# Altium schematic symbol library Schlib1.SchLib: 28 symbols
Pins are listed as number, name and electrical type; pins without a type are passive.

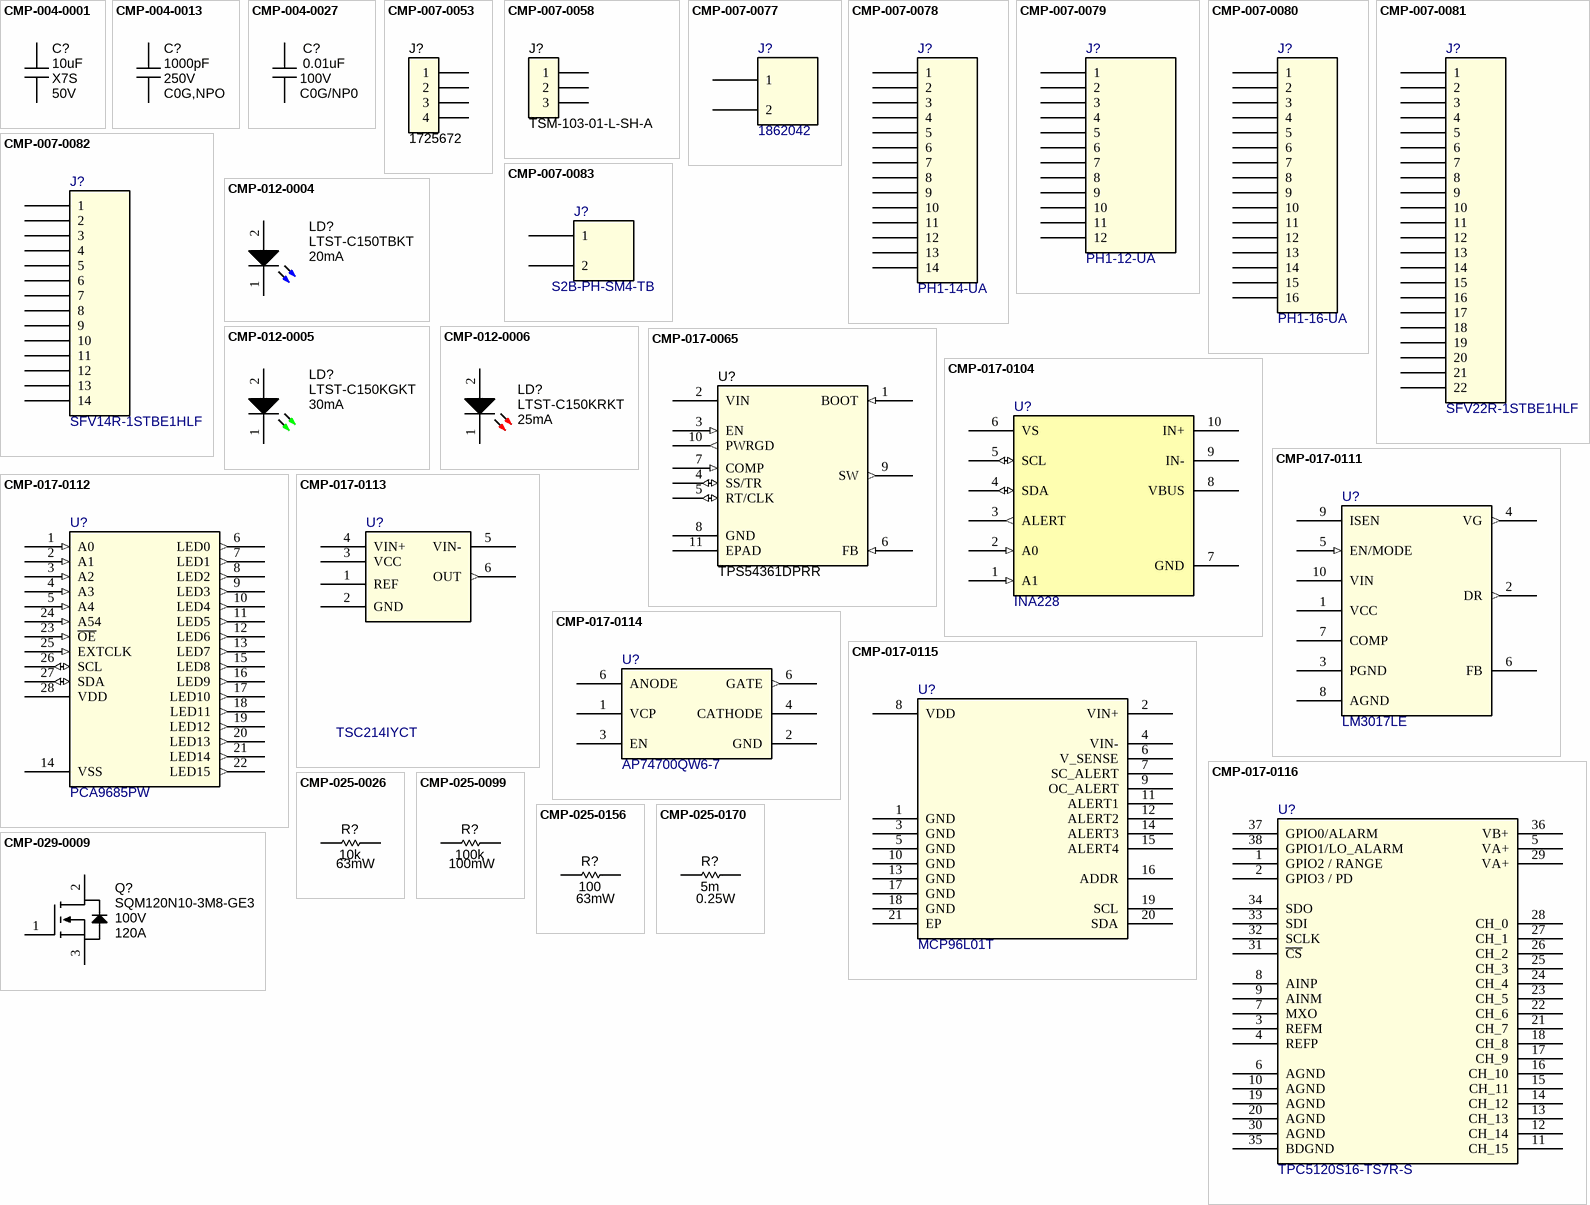
[diagram p0: symbols CMP-004-0001 to CMP-029-0009]

## CMP-004-0001
designator C?, comment 10uF  Voltage Rating: 50V  Temp Coeff: X7S
CAP, CER, 10µF, 50V, 10%, X7S, 1210; MFR: TDK Corporation; MFR#: CGA6P3X7S1H106K250AE; Temp Range: -55 / +125 C; Quality: AEC-Q200; Capacitor Type: Ceramic; Design Item ID: CN/10uF/50V/X7S/10%/1210; Case Code (Imperial): 1210; ComponentLink1URL: https://product.tdk.com/info/en/catalog/datasheets/mlcc_automotive_soft_en.pdf?ref_disty=digikey; Case Code (Metric): 3225; ComponentLink1Description: Datasheet; Tolerance: 10%; Value: 10uF; Supplier 1: Avnet; Supplier Part Number 1: CGA6P3X7S1H106K250AE
footprint CAPC3225X28N (Chip Capacitor, 2-Leads, Body 3.20x2.50mm, IPC Medium Density)
pins: 1, 2

## CMP-004-0013
designator C?, comment 1000pF  Voltage Rating: 250V  Temp Coeff: C0G,NPO
CAP CER 1000PF 250V X7R 0603; MFR2#: C1608C0G2E102J080AA; MFR: KEMET; MFR#: C0603C102JAGAC7867; Tolerance: 5%; Capacitor Type: Ceramic; Temp Range: -55 / +125 C; Case Code (Imperial): 0603; Value: 1000pF; ComponentLink1Description: Datasheet; ComponentLink1URL: https://api.kemet.com/component-edge/download/datasheet/C0603C102K1RAC7411.pdf; RoHS Compliant: Yes; Design Item ID: CN/1000PF/250V/C0G,NPO/5%/0603; MFR2: TDK Corporation; REACH SVHC: Yes; Case Code (Metric): 1608
footprint CAPC1608X09N (Chip Capacitor, 2-Leads, Body 1.60x0.80mm, IPC Medium Density)
pins: 1, 2

## CMP-004-0027
designator C?, comment 0.01uF  Voltage Rating: 100V  Temp Coeff: C0G/NP0
CAP CER 1000PF 100V C0G/NP0 0603; MFR: Murata Electronics; MFR#: GCM1885C2A102JA16D; MFR2#: C0603C103K2RECAUTO; Tolerance: 10%; Temp Range: -55 / +125 C; Capacitor Type: Ceramic; RoHS Compliant: Yes; Case Code (Metric): 1608; REACH SVHC: Yes; MFR2: TDK Corporation; Value: 0.01uF; Case Code (Imperial): 0603; Design Item ID: CN/0.01uF/100V/C0G,NP0/10%/0603
footprint CAPC1608X09N (Chip Capacitor, 2-Leads, Body 1.60x0.80mm, IPC Medium Density)
pins: 1, 2

## CMP-007-0053
designator J?, comment 1725672
TERM BLK 4P SIDE ENT 2.54MM PCB; MFR: Phoenix Contact; Voltage Rating: 250V AC(RMS)/DC; Current Rating: 6A; System: Connector; Temp Range: -40 / +115 C; Gender: Male; Value: 1725672; Orientation: Right Angle; Terminal Pitch: 2.54mm; Design Item ID: CON/4P/2.54mm/6A/1725672/PHOENIX_CONTACT; Flammability Rating: UL 94V0; MFR#: 1725672; Contact Finish: Tin; ComponentLink1Description: Datasheet; ComponentLink1URL: https://www.phoenixcontact.com/en-us/products/printed-circuit-board-terminal-mpt-05-4-254-1725672
footprint CONN_PHOENIX_1725672
pins: 1, 2, 3, 4

## CMP-007-0058
designator J?, comment TSM-103-01-L-SH-A
CONN HEADER SMD R/A 3POS 2.54MM; MFR: Samtec; Durability: 100 mating cycles; Current Rating: 2A; System: Connector; Temp Range: -55 / +125 C; Gender: Male; Value: TSM-103-01-L-SH-A; Orientation: Right Angle; Terminal Pitch: 2.54mm; RoHS Compliant: Yes; Design Item ID: CON/3P/2.54mm/2A/TSM-103-01-L-SH-A/SAMTEC; Flammability Rating: UL 94V-0; MFR#: TSM-103-01-L-SH-A; Contact Finish: Gold; ComponentLink1Description: Product Specifiacation; ComponentLink1URL: https://suddendocs.samtec.com/catalog_english/tsm.pdf; ComponentLink2Description: Drawing; ComponentLink2URL: https://suddendocs.samtec.com/prints/tsm-1xx-xx-xxx-sh-xx-xxx-x-xx-mkt.pdf
footprint CONN_SAMTEC_TSM-103-01-F-SV (CONN SAMTEC TSM-103-01-F-SV)
pins: 1, 2, 3

## CMP-007-0077
designator J?, comment 1862042
TERM BLOCK 2POS 45DEG 3.5MM PCB; MFR: Phoenix; Value: 1862042; MFR#: 1862042; ComponentLink1URL: https://www.phoenixcontact.com/us/products/1862042/pdf; ComponentLink1Description: Datasheet; Contact Finish: Tin; Type: Connector; Design Item ID: CON/2P/3.5MM/1862042/PHOENIX
footprint CONN_PHOENIX_1862042
pins: 1, 2

## CMP-007-0078
designator J?, comment PH1-14-UA
CONN HEADER VERT 14POS 2.54MM; MFR: Adam Tech; Value: PH1-14-UA; MFR#: PH1-14-UA; ComponentLink1URL: https://app.adam-tech.com/products/download/data_sheet/201605/ph1-xx-ua-data-sheet.pdf; ComponentLink1Description: Datasheet; Contact Finish: Gold; Type: Connector; Design Item ID: CON/14P/2.54MM/2A/PH1-14-UA/ADAM TECH
footprint CONN_ADAM_TECH_PH1-14-UA
pins: 1 (power), 2 (power), 3 (power), 4 (power), 5 (power), 6 (power), 7 (power), 8 (power), 9 (power), 10 (power), 11 (power), 12 (power), 13 (power), 14 (power)

## CMP-007-0079
designator J?, comment PH1-12-UA
CONN HEADER VERT 12POS 2.54MM; MFR: Adam Tech; MFR#: v; Value: PH1-12-UA; ComponentLink1URL: https://app.adam-tech.com/products/download/data_sheet/201605/ph1-xx-ua-data-sheet.pdf; ComponentLink1Description: Datasheet; Contact Finish: Tin; Type: Connector; Design Item ID: CON/12P/2.54MM/2A/PH1-12-UA/Adam Tech
footprint CONN_ADAM_TECH_PH1-12-UA
pins: 1 (power), 2 (power), 3 (power), 4 (power), 5 (power), 6 (power), 7 (power), 8 (power), 9 (power), 10 (power), 11 (power), 12 (power)

## CMP-007-0080
designator J?, comment PH1-16-UA
CONN HEADER VERT 16POS 2.54MM; MFR: Adam Tech; Value: PH1-16-UA; MFR#: PH1-16-UA; ComponentLink1URL: https://app.adam-tech.com/products/download/data_sheet/201605/ph1-xx-ua-data-sheet.pdf; ComponentLink1Description: Datasheet; Contact Finish: Gold; Type: Connector; Design Item ID: CON/16P/2.54MM/2A/PH1-16-UA/ADAM TECH
footprint CONN_ADAM_TECH_PH1-16-UA
pins: 1 (power), 2 (power), 3 (power), 4 (power), 5 (power), 6 (power), 7 (power), 8 (power), 9 (power), 10 (power), 11 (power), 12 (power), 13 (power), 14 (power), 15 (power), 16 (power)

## CMP-007-0081
designator J?, comment SFV22R-1STBE1HLF
CONN FFC BOTTOM 22POS 0.5MM R/A; MFR: Amphenol ICC (FCI); Value: SFV22R-1STBE1HLF; MFR#: SFV22R-1STBE1HLF; ComponentLink1URL: https://cdn.amphenol-cs.com/media/wysiwyg/files/documentation/datasheet/flex/flexconnectors_050mm_sfvr.pdf; ComponentLink1Description: Datasheet; Contact Finish: Tin; Type: Connector; Design Item ID: CON/22P/0.5MM/0.5A/SFV22R-1STBE1HLF/AMPHENOL
footprint CONN_AMPHENOL_SFV22R-1STBE1HLF
pins: 1 (power), 2 (power), 3 (power), 4 (power), 5 (power), 6 (power), 7 (power), 8 (power), 9 (power), 10 (power), 11 (power), 12 (power), 13 (power), 14 (power), 15 (power), 16 (power), 17 (power), 18 (power), 19 (power), 20 (power), 21 (power), 22 (power)

## CMP-007-0082
designator J?, comment SFV14R-1STBE1HLF
CONN FFC BOTTOM 14POS 0.5MM R/A; MFR: Amphenol ICC (FCI); Value: SFV14R-1STBE1HLF; MFR#: SFV14R-1STBE1HLF; ComponentLink1URL: https://cdn.amphenol-cs.com/media/wysiwyg/files/documentation/datasheet/flex/flexconnectors_050mm_sfvr.pdf; ComponentLink1Description: Datasheet; Contact Finish: Tin; Type: Connector; Design Item ID: CON/14P/0.5MM/0.5A/SFV14R-1STBE1HLF/AMPHENOL
footprint CONN_AMPHENOL_SFV14R-1STBE5HLF
pins: 1 (power), 2 (power), 3 (power), 4 (power), 5 (power), 6 (power), 7 (power), 8 (power), 9 (power), 10 (power), 11 (power), 12 (power), 13 (power), 14 (power)

## CMP-007-0083
designator J?, comment S2B-PH-SM4-TB
CONN HEADER SMD R/A 2POS 2MM; MFR: JST; Value: S2B-PH-SM4-TB; MFR#: S2B-PH-SM4-TB; ComponentLink1URL: https://cdn.amphenol-cs.com/media/wysiwyg/files/documentation/datasheet/flex/flexconnectors_050mm_sfvr.pdf; ComponentLink1Description: Datasheet; Contact Finish: Tin; Type: Connector; Design Item ID: CON/2P/2MM/2A/S2B-PH-SM4-TB/JST
footprint CONN_JST_S2B-PH-SM4-TB
pins: 1 (power), 2 (power)

## CMP-012-0004
designator LD?, comment LTST-C150TBKT  Current Rating: 20mA
LED BLUE CLEAR 1206 SMD; MFR: Lite-On Inc; MFR2#: HQ15-2102UBC; Temp Range: -20 / +80 C; Viewing Angle: 130 degree; Wavelength: 470nm; Voltage: 3.2V; Wattage: 76mW; Current, Reverse Leakage: 10uA; Voltage, Forward: 2.8 - 3.8V; ComponentLink1URL: https://optoelectronics.liteon.com/upload/download/DS22-2000-026/LTST-C150TBKT(0630).pdf; Colour: Blue; Value: LTST-C150TBKT; Design Item ID: LED/BLUE/20MA/LTST-C150TBKT/1206; ComponentLink1Description: Datasheet; MFR2: Harvatek; MFR#: LTST-C150TBKT
footprint LED_LITE-ON_LTST-C150TBKT (Lite-On Blue 1206 Chip LED)
pins: 1 K, 2 A

## CMP-012-0005
designator LD?, comment LTST-C150KGKT  Current Rating: 30mA
LED GREEN CLEAR 1206 SMD; MFR: Lite-On Inc; Current, Reverse Leakage: 10uA; Voltage: 2V; Wavelength: 571nm; Viewing Angle: 130 degree; Wattage: 75mW; Temp Range: -55 / +85 C; ComponentLink1URL: https://optoelectronics.liteon.com/upload/download/DS22-2000-072/LTST-C150KGKT.pdf; Design Item ID: LED/GREEN/30MA/LTST-C150KGKT/1206; ComponentLink1Description: Datasheet; Part Status: Production; Voltage, Forward: 2V; Colour: Green; MFR#: LTST-C150KGKT; Value: LTST-C150KGKT
footprint LED_LITE-ON_LTST-C150KGKT (Lite-On Blue 1206 Chip LED)
pins: 1 K, 2 A

## CMP-012-0006
designator LD?, comment LTST-C150KRKT  Current: 25mA
LED RED CLEAR 1206 SMD; MFR: Lite-On Inc; Viewing Angle: 130 degree; Voltage: 2V; Wavelength: 631nm; Wattage: 62.5mW; Current, Reverse Leakage: 10uA; Temp Range: -30 / +85 C; Voltage, Forward: 2 - 2.4V; MFR#: LTST-C150KRKT; Part Status: Production; Value: LTST-C150KRKT; ComponentLink1Description: Datasheet; Colour: Red; Design Item ID: LED/RED/25MA/LTST-C150KRKT/1206; ComponentLink1URL: https://optoelectronics.liteon.com/upload/download/DS-22-99-0149/LTST-C150KRKT.pdf
footprint LED_LITE-ON_LTST-C150KRKT (Lite-On Blue 1206 Chip LED)
pins: 1 K, 2 A

## CMP-017-0065
designator U?, comment TPS54361DPRR
IC REG BCK SPLIT RAIL ADJ 10WSON; MFR: Texas Instruments; Temp Range: -40 / +150 C; Current: 5.5Ap; Voltage Range: 4.5 - 60V DC; ComponentLink1Description: Datasheet; REACH SVHC: Unaffected; Case/Package: WSON10; MFR#: TPS54361DPRR; Type: DC/DC; Value: TPS54361DPRR; Part Status: Production; ComponentLink1URL: https://www.ti.com/lit/ds/symlink/tps54361.pdf?ts=1687558272251; RoHS Compliant: Yes; Design Item ID: IC/VREG/DCDC/TPS54361/WSON10
footprint QFN80P400X400X80-11N (QFN, 10-Leads, Body 4.0x4.00mm, Pitch 0.80mm, Thermal Pad 3.00x2.60mm, IPC Medium Density)
pins: 1 BOOT (in), 2 VIN (power), 3 EN (in), 4 SS/TR (io), 5 RT/CLK (io), 6 FB (in), 7 COMP (in), 8 GND (power), 9 SW (out), 10 PWRGD (out), 11 EPAD (power)

## CMP-017-0104
designator U?, comment INA228
IC POWER MONITOR DIGITAL 10VSSOP; MFR: Texas Instruments; Value: INA228AIDGSR; Populate: Yes; REACFH SVCH: Unaffected; Temp Range: -40 / +85 C; Voltage Range: 3.6V - 24V DC; Rth(j-a): 44.2 C / W; Rth(j-c) top: 20.9 C / W; Temp Junction: -40 / +150 C; MFR#: INA228AIDGSR; Case Package: VSSOP-10; Design Item ID: IC/PWRM/DIG/INA228; Part Status: Production; RoHS Comliant: Yes; Type: POWER MONITOR; ComponentLink1Description: Datasheet; ComponentLink1URL: https://www.ti.com/general/docs/suppproductinfo.tsp?distId=10&gotoUrl=http%3A%2F%2Fwww.ti.com%2Flit%2Fgpn%2Fina228
footprint TSSOP50P490X110-10N (TSSOP, 10-Leads, Body 3.00x3.00mm, Pitch 0.50mm, IPC Medium Density)
pins: 1 A1 (in), 2 A0 (in), 3 ALERT (out), 4 SDA (io), 5 SCL (io), 6 VS (power), 7 GND, 8 VBUS, 9 IN-, 10 IN+

## CMP-017-0111
designator U?, comment LM3017LE
IC REG CTRLR BOOST 10WQFN; MFR: Texas Instruments; MFR2#: LM3017LEX/NOPB; Value: LM3017LE/NOPB; Populate: Yes; REACFH SVCH: Unaffected; Temp Range, Ambient: -40 / +150 C; Voltage Range: 5.4V - 18V DC; Rth(j-a): 79.2 C/W; Rth(j-c) top: 29.8 C/W; Temp Range, Junction: -40 / +125C; Frequency, Switching: 600kHz; MFR#: LM3017LE/NOPB; MFR2: Texas Instruments; Case Package: QFN50P240X270X80-10N; Design Item ID: IC/VREG/LM3017LE/QFN10; Part Status: Production; RoHS Comliant: Yes; Type: DC/DC BOOST; ComponentLink1Description: Datasheet; ComponentLink1URL: https://www.ti.com/lit/ds/symlink/lm3017.pdf?ts=1770403818508
footprint QFN50P240X270X80-10N (QFN, 10-Leads, Body 2.40x2.70mm, Pitch 0.50mm, IPC Medium Density)
pins: 1 VCC (power), 2 DR (out), 3 PGND (power), 4 VG (out), 5 EN/MODE (in), 6 FB, 7 COMP, 8 AGND (power), 9 ISEN, 10 VIN (power)

## CMP-017-0112
designator U?, comment PCA9685PW
IC LED DRVR LIN PWM 25MA 28TSSOP; MFR: NXP; Value: PCA9685PW,118; Populate: Yes; REACFH SVCH: Unaffected; Temp Range, Ambient: -40 / +85 C; Voltage Range: 2.3V - 5.5V DC; Temp Range, Junction: -40 / +125C; MFR#: PCA9685PW,118; Case Package: TSSOP28; Design Item ID: IC/LDRV/PCA9685PW/TSSOP28; Part Status: Production; RoHS Comliant: Yes; Type: PWM CONTROLLER; ComponentLink1Description: Datasheet; ComponentLink1URL: https://www.nxp.com/docs/en/data-sheet/PCA9685.pdf
footprint SOP65P640X110-28N
pins: 1 A0 (in), 2 A1 (in), 3 A2 (in), 4 A3 (in), 5 A4 (in), 6 LED0 (out), 7 LED1 (out), 8 LED2 (out), 9 LED3 (out), 10 LED4 (out), 11 LED5 (out), 12 LED6 (out), 13 LED7 (out), 14 VSS (power), 15 LED8 (out), 16 LED9 (out), 17 LED10 (out), 18 LED11 (out), 19 LED12 (out), 20 LED13 (out), 21 LED14 (out), 22 LED15 (out), 23 ~{OE} (in), 24 A54 (in), 25 EXTCLK (in), 26 SCL (io), 27 SDA (io), 28 VDD (power)

## CMP-017-0113
designator U?, comment TSC214IYCT
IC CURR SENSE 1 CIRCUIT SC70-6; MFR: NXP; Value: PCA9685PW,118; Populate: Yes; REACFH SVCH: Unaffected; Temp Range, Ambient: -40 / +85 C; Voltage Range: 2.3V - 5.5V DC; Temp Range, Junction: -40 / +125C; MFR#: PCA9685PW,118; Case Package: TSSOP28; Design Item ID: IC/LDRV/PCA9685PW/TSSOP28; Part Status: Production; RoHS Comliant: Yes; Type: PWM CONTROLLER; ComponentLink1Description: Datasheet; ComponentLink1URL: https://www.nxp.com/docs/en/data-sheet/PCA9685.pdf
footprint SOT65P210X110-6N (SOT23, 6-Leads, Body 2.00x2.10mm, Pitch 0.65mm, IPC Medium Density)
pins: 1 REF, 2 GND (power), 3 VCC (power), 4 VIN+, 5 VIN-, 6 OUT (out)

## CMP-017-0114
designator U?, comment AP74700QW6-7
IC LOAD SWITCH SOT26 T&R 3K; MFR: Diodes Inc; Populate: Yes; REACFH SVCH: Unaffected; Temp Range, Ambient: -40 / +85 C; Voltage Range: -60 / +60 V; Temp Range, Junction: -40 / +150C; Value: AP74700QW6-7; MFR#: AP74700QW6-7; Case Package: SOT23-6; Design Item ID: IC/LSW/AP74700QW6-7/SOT23-6; Part Status: Production; RoHS Comliant: Yes; Type: LOAD SWITCH; ComponentLink1Description: Datasheet; ComponentLink1URL: https://www.diodes.com/assets/Datasheets/AP74700Q.pdf
footprint SOT95P285X140-6N (SOT23, 6-Leads, Body 3.00x2.85mm, Pitch 0.95mm, IPC Medium Density)
pins: 1 VCP (power), 2 GND, 3 EN (power), 4 CATHODE, 6 ANODE, 6 GATE (out)

## CMP-017-0115
designator U?, comment MCP96L01T
IC THERMOCOUPLE AMPLIFIER I2C; MFR: Microchip; Value: MCP96L01T-E/MX; Populate: Yes; REACFH SVCH: Unaffected; Temp Range, Ambient: -40 / +125 C; Voltage Range: 2.3V / +5.5 V; Temp Range, Junction: -40 / +150C; MFR#: MCP96L01T-E/MX; Case Package: QFN-21N; Design Item ID: IC/TC/MCP96L01/QFN20; Part Status: Production; RoHS Comliant: Yes; Type: THERMOCOUPLE; ComponentLink1Description: Datasheet; ComponentLink1URL: https://ww1.microchip.com/downloads/en/DeviceDoc/MCP960X-L0X-RL0X-Data-Sheet-20005426F.pdf
footprint QFN65P500X500X100_HS-21N (QFN, 20-Leads, Body 5.00x5.00mm, Pitch 0.65mm, Thermal Pad 3.25x3.25mm, IPC Medium Density)
pins: 1 GND (power), 2 VIN+, 3 GND (power), 4 VIN-, 5 GND (power), 6 V_SENSE, 7 SC_ALERT, 8 VDD, 9 OC_ALERT, 10 GND (power), 11 ALERT1, 12 ALERT2, 13 GND (power), 14 ALERT3, 15 ALERT4, 16 ADDR, 17 GND (power), 18 GND (power), 19 SCL, 20 SDA, 21 EP

## CMP-017-0116
designator U?, comment TPC5120S16-TS7R-S
IC 12 BIT ANALOG TO DIGITAL CONVERT SPI; MFR: 3PEAK; Populate: Yes; REACFH SVCH: Unaffected; Temp Range, Ambient: -40 / +125 C; Voltage Range: 2.7V - 5.25V DC; Temp Range, Junction: -40 / +150C; Value: TPC5120S16-TS7R-S; MFR#: TPC5120S16-TS7R-S; Case Package: TSSOP38; Design Item ID: IC/ADC/12BIT/TPC5120S16-TS7R-S/3PEAK; Part Status: Production; RoHS Comliant: Yes; Type: THERMOCOUPLE; ComponentLink1Description: Datasheet; ComponentLink1URL: https://static.3peak.com/res/doc/ds/Datasheet_TPC5120-TPC5121.pdf
footprint TSSOP50P640X120-38N (TSSOP, 38-Leads, Body 9.70x4.40mm, Pitch 0.50mm, IPC Medium Density)
pins: 1 GPIO2 / RANGE, 2 GPIO3 / PD, 3 REFM, 4 REFP, 5 VA+ (power), 6 AGND (power), 7 MXO, 8 AINP, 9 AINM, 10 AGND (power), 11 CH_15, 12 CH_14, 13 CH_13, 14 CH_12, 15 CH_11, 16 CH_10, 17 CH_9, 18 CH_8, 19 AGND (power), 20 AGND (power), 21 CH_7, 22 CH_6, 23 CH_5, 24 CH_4, 25 CH_3, 26 CH_2, 27 CH_1, 28 CH_0, 29 VA+ (power), 30 AGND (power), 31 ~{CS}, 32 SCLK, 33 SDI, 34 SDO, 35 BDGND (power), 36 VB+ (power), 37 GPIO0/ALARM, 38 GPIO1/LO_ALARM

## CMP-025-0026
designator R?, comment 10k  Wattage: 63mW
RES SMD 10K OHM 0.5% 1/16W 0402; MFR2#: RNCF0402DTE10K0; MFR#: ERA-2AED103X; MFR: Panasonic Electronic Components; Temp Range: -55 / +155 C; Voltage Rating: 50V; Temperature Coefficient: 25ppm/°C; Quality: AEC-Q200; MFR2: Stackpole Electronics Inc; RoHS Compliant: Yes; ComponentLink1Description: Datasheet; REACH SVHC: Yes; Value: 10k; Case Code (Imperial): 0402; Case Code (Metric): 1005; Tolerance: 0.5%; Resistor Type: Thick Film; Design Item ID: R/10.0K/0.063W/0.5%/0402; ComponentLink1URL: https://industrial.panasonic.com/cdbs/www-data/pdf/RDM0000/AOA0000C307.pdf
footprint RESC1005X04N (Chip Resistor, 2-Leads, Body 1.00x0.50mm, IPC Medium Density)
pins: 1, 2

## CMP-025-0099
designator R?, comment 100k  Wattage: 100mW
RES SMD 100K OHM 1% 1/10W 0603; MFR3#: CRGCQ0603F100K; MFR: Panasonic Electronic Components; MFR4#: RS-03K1003FT; MFR#: ERJ-3EKF1003V; MFR2#: RMCF0603FT100K; Voltage: 75V; Temp Range: -55 / +155 C; Quality: AEC-Q200; Current: 1A; Value: 100k; Resistor Type: Thick Film; ComponentLink1URL: https://industrial.panasonic.com/cdbs/www-data/pdf/RDA0000/AOA0000C304.pdf; ComponentLink1Description: Datasheet; Tolerance: 1%; Case Code (Metric): 1608; MFR4: FengHua; MFR3: TE Connectivity; Design Item ID: R/100.0K/0.1W/1%/0603; Case Code (Imperial): 0603; MFR2: Stackpole Electronics Inc
footprint RESC1608X06N (Chip Resistor, 2-Leads, Body 1.60x0.85mm, IPC Medium Density)
pins: 1, 2

## CMP-025-0156
designator R?, comment 100  Wattage: 63mW
RES SMD 100 OHM 1% 1/16W 0402; MFR4#: CR0402-FX-1000GLF; MFR#: RMCF0402FT100R; MFR: Stackpole Electronics Inc; MFR3#: CRCW0402100RFKED; MFR2#: RC0402FR-07100RL; Value: 100 Ohm; Voltage Rating: 75V; Temp Range: -55 / +155 C; Current: 1A; Temperature Coefficient: 100ppm/°C; Populate: Yes; MFR2: YAGEO; Tolerance: 1%; MFR3: Vishay Dale; ComponentLink1Description: Datasheet; ComponentLink1URL: https://www.yageo.com/upload/media/product/products/datasheet/rchip/PYu-RC_Group_51_RoHS_L_12.pdf; Resistor Type: Thick Film; Case Code (Imperial): 0402; MFR4: Bourns Inc; Case Code (Metric): 1005; Design Item ID: R/100.0/0.063W/1%/0402; RoHS Compliant: Yes
footprint RESC1005X04N (Chip Resistor, 2-Leads, Body 1.00x0.50mm, IPC Medium Density)
pins: 1, 2

## CMP-025-0170
designator R?, comment 5m  Wattage: 0.25W
RES SMD 5m OHM 1% 1/4W 1206; MFR#: PE1206FRF070R005L; MFR: YAGEO; Value: 5m Ohm; Voltage Rating: 250V; Temp Range: -55 / +155 C; Current: 6A; Temperature Coefficient: 600ppm/°C; Populate: Yes; Tolerance: 1%; ComponentLink1Description: Datasheet; ComponentLink1URL: https://www.yageo.com/upload/media/product/app/datasheet/rchip/pyu-rl_group_521_rohs_l.pdf; Resistor Type: Thick Film; Case Code (Imperial): 1206; Case Code (Metric): 3216; Design Item ID: R/0.005/0.25W/1%/1206; RoHS Compliant: Yes; Part Status: Production
footprint RESC3115X07N (Chip Resistor, 2-Leads, Body 3.13x1.55mm, IPC Medium Density)
pins: 1, 2

## CMP-029-0009
designator Q?, comment SQM120N10-3M8-GE3  Current Rating: 120A  Voltage Rating: 100V
MOSFET N-CH 100V 110A H2PAK-2; MFR: Vishay Siliconix; Rth(j-a): 40 C/W; Input Capacitance: 7230pF; Vgs(th) MAX: 3.5V; Quality: AEC-Q101; Type: N-Channel; Wattage: 375W; Rds On MAX: 3.9mR; Temp Range: -55 / +175 C; Rth(j-c): 0.4 C/W; Rise Time: 57ns; Case/Package: TO-263-3; Design Item ID: Q/NCH/100V/120A/SQM120N10-3M8/D2PAK; MFR#: SQM120N10-3M8-GE3; Value: SQM120N10-3M8-GE3
footprint DPAK254P1524X483-3N (D2-PAK, 3-Pads, Body 7.93x8.57mm (max), IPC Medium Density)
pins: 1, 2 D, 3 S